# Altium footprint library SM04BULHK1TA1ETBHF.PcbLib: 1 footprints
Each footprint in its own frame and in the unit in brackets; x right, y up, seen from the top. Pads: shape width x height; smd on the part's side, far side on the other; paste and mask are expansions set on the pad; w line width, h text height; cw(c..) or ccw(c..) is an arc to the next point about the centre after c.
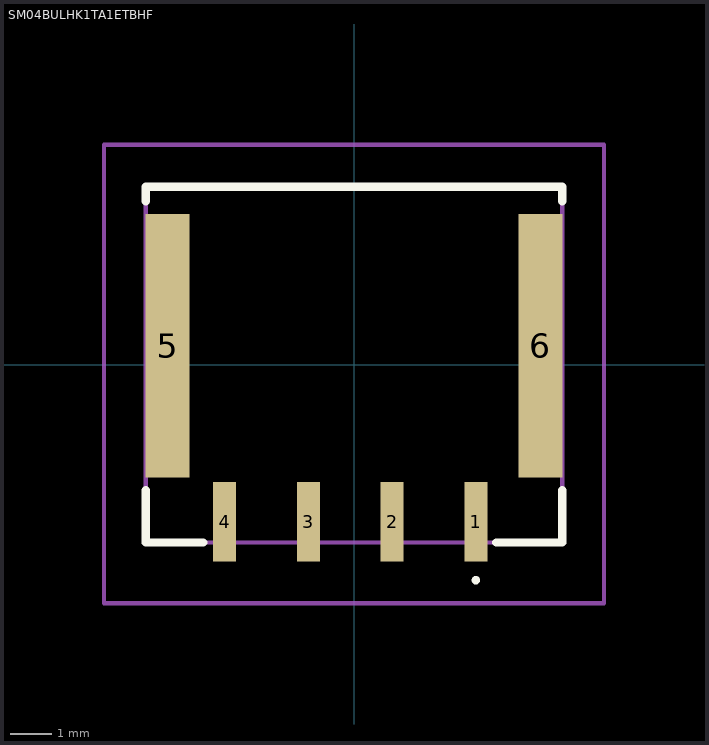
[diagram p0: the footprint, top view; thin cyan lines are the x and y axes]

## SM04BULHK1TA1ETBHF [mm]
pads (6):
  rect 0.55x1.9 smd: 1(2.91,-3.75) 2(0.91,-3.75) 3(-1.09,-3.75) 4(-3.09,-3.75)
  rect 1.05x6.3 smd: 5(-4.45,0.45) 6(4.45,0.45)
Top Overlay:
  lines w0.1: 2.91,-5.2 2.91,-5.2 ; 2.91,-5.2 ccw(c2.91,-5.15) 2.91,-5.1 ; 2.91,-5.2 cw(c2.91,-5.15) 2.91,-5.1 ; 2.91,-5.1 2.91,-5.1
  lines w0.2: -4.975,-3 -4.975,-4.25 -3.6,-4.25 ; -4.975,3.9 -4.975,4.25 4.975,4.25 4.975,3.9 ; 3.4,-4.25 4.975,-4.25 4.975,-3
Mechanical 15:
  lines w0.1: -4.975,-4.25 4.975,-4.25 4.975,4.25 -4.975,4.25 -4.975,-4.25
Mechanical 20:
  lines w0.1: -5.975,-5.7 5.975,-5.7 5.975,5.25 -5.975,5.25 -5.975,-5.7